# Altium schematic symbol library NSC Audio.SchLib: 691 symbols (part 15 of 18)
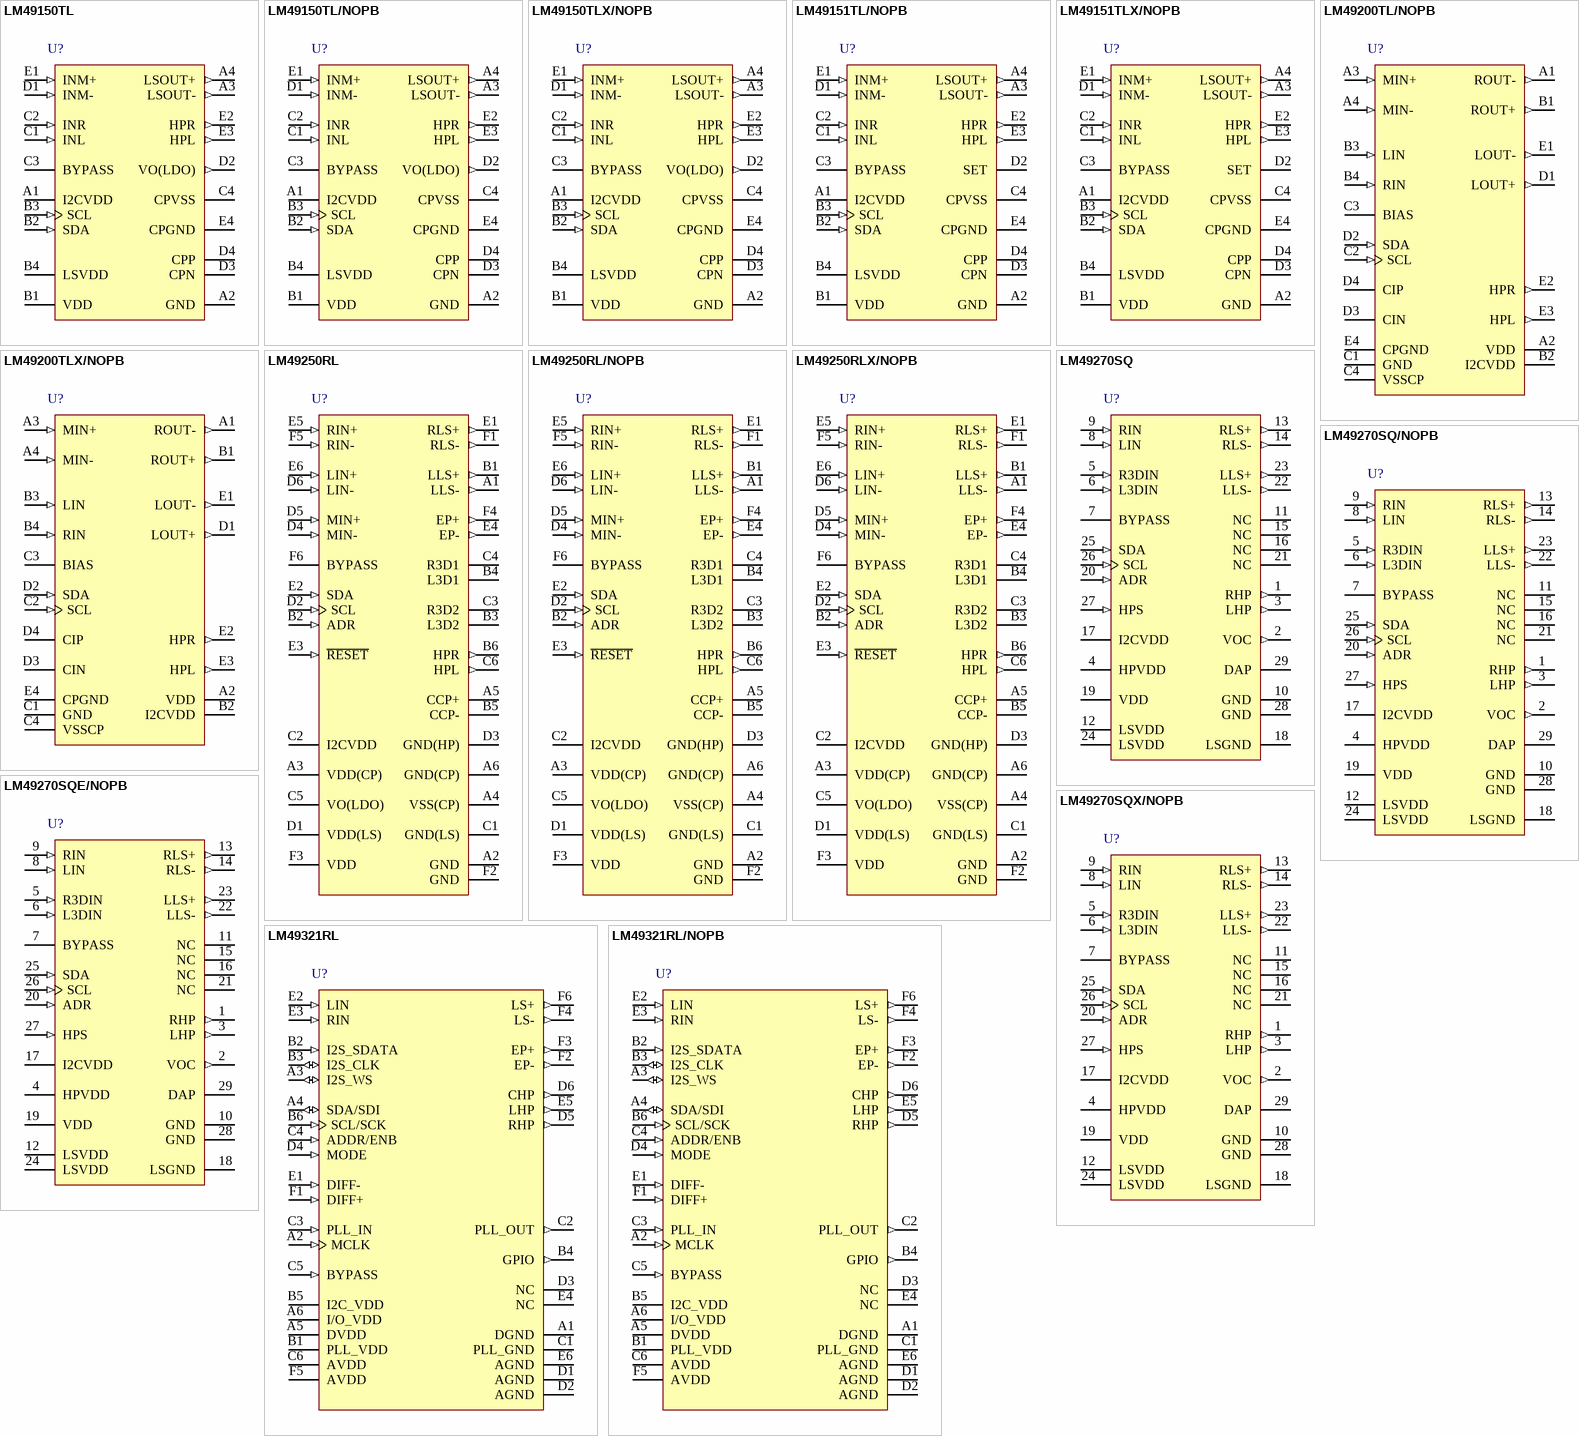
[diagram p41: symbols LM49150TL to LM49321RL/NOPB]

## LM49150TL/NOPB
designator U?
Mono Class D Audio Subsystem with Earpiece Driver and Stereo Ground Referenced Headphone Amplifiers, 20-pin Micro SMD, Pb-Free; PartNumber: LM49150TL/NOPB; Manufacturer: National Semiconductor; PackageTopMarking: XYTT*I GK7; PowerWise: N; CompType: Audio IC; Published: 1-Mar-2010; DatasheetVersion: Mar-2009; PackageVersion: revC, Jan-2004; PackageReference: TLA20KGA; Publisher: Altium Limited; PackageDescription: Thin Micro SMD, 20 Bump (Large), 0.5mm Pitch; Supplier 1: Digi-Key; Supplier Part Number 1: LM49150TLTR-ND; Supplier 2: Digi-Key; Supplier Part Number 2: LM49150TLCT-ND; Supplier 3: Digi-Key; Supplier Part Number 3: LM49150TLDKR-ND; RoHS: Y; PinCount: 20; Code_JEDEC: MO-211-DG; ComponentLink1Description: LM49150 Datasheet; ComponentLink1URL: http://www.national.com/ds/LM/LM49150.pdf; ComponentLink2Description: LM49150 Web Page; ComponentLink2URL: http://www.national.com/pf/LM/LM49150.html; ComponentLink3Description: TLA20KGA Package Page; ComponentLink3URL: http://www.national.com/packaging/folders/tla20kga.html
footprint TLA20KGA (Micro SMD, 20-Leads, Body 2.64x2.23mm, Pitch 0.5mm, NSC Recommended)
pins: A1 I2CVDD (power), A2 GND (power), A3 LSOUT- (out), A4 LSOUT+ (out), B1 VDD (power), B2 SDA (in), B3 SCL (in), B4 LSVDD (power), C1 INL (in), C2 INR (in), C3 BYPASS, C4 CPVSS (power), D1 INM- (in), D2 VO(LDO) (out), D3 CPN, D4 CPP, E1 INM+ (in), E2 HPR (out), E3 HPL (out), E4 CPGND (power)

## LM49150TLX/NOPB
designator U?
Mono Class D Audio Subsystem with Earpiece Driver and Stereo Ground Referenced Headphone Amplifiers, 20-pin Micro SMD, Pb-Free; PartNumber: LM49150TLX/NOPB; Manufacturer: National Semiconductor; PackageTopMarking: XYTT*I GK7; PowerWise: N; CompType: Audio IC; Published: 1-Mar-2010; DatasheetVersion: Mar-2009; PackageVersion: revC, Jan-2004; PackageReference: TLA20KGA; Publisher: Altium Limited; PackageDescription: Thin Micro SMD, 20 Bump (Large), 0.5mm Pitch; Supplier 1: Digi-Key; Supplier Part Number 1: LM49150TLX-ND; RoHS: Y; PinCount: 20; Code_JEDEC: MO-211-DG; ComponentLink1Description: LM49150 Datasheet; ComponentLink1URL: http://www.national.com/ds/LM/LM49150.pdf; ComponentLink2Description: LM49150 Web Page; ComponentLink2URL: http://www.national.com/pf/LM/LM49150.html; ComponentLink3Description: TLA20KGA Package Page; ComponentLink3URL: http://www.national.com/packaging/folders/tla20kga.html
footprint TLA20KGA (Micro SMD, 20-Leads, Body 2.64x2.23mm, Pitch 0.5mm, NSC Recommended)
pins: A1 I2CVDD (power), A2 GND (power), A3 LSOUT- (out), A4 LSOUT+ (out), B1 VDD (power), B2 SDA (in), B3 SCL (in), B4 LSVDD (power), C1 INL (in), C2 INR (in), C3 BYPASS, C4 CPVSS (power), D1 INM- (in), D2 VO(LDO) (out), D3 CPN, D4 CPP, E1 INM+ (in), E2 HPR (out), E3 HPL (out), E4 CPGND (power)

## LM49151TL/NOPB
designator U?
Mono Class D Audio Subsystem with Earpiece Driver, Ground Referenced Headphone Amplifiers, Speaker Protection and No Clip with Clip Control, 20-pin Micro SMD, Pb-Free; PartNumber: LM49151TL/NOPB; Manufacturer: National Semiconductor; PackageTopMarking: XYTT*I GL7; PowerWise: Y; CompType: Audio IC; Published: 1-Mar-2010; DatasheetVersion: Apr-2009; PackageVersion: revC, Jan-2004; PackageReference: TLA20GDA; Publisher: Altium Limited; PackageDescription: Thin Micro SMD, 20 Bump (Large), 0.5mm Pitch; Supplier 1: Digi-Key; Supplier Part Number 1: LM49151TLTR-ND; Supplier 2: Digi-Key; Supplier Part Number 2: LM49151TLCT-ND; Supplier 3: Digi-Key; Supplier Part Number 3: LM49151TLDKR-ND; RoHS: Y; PinCount: 20; Code_JEDEC: MO-211-DG; ComponentLink1Description: LM49151 Datasheet; ComponentLink1URL: http://www.national.com/ds/LM/LM49151.pdf; ComponentLink2Description: LM49151 Web Page; ComponentLink2URL: http://www.national.com/pf/LM/LM49151.html; ComponentLink3Description: TLA20GDA Package Page; ComponentLink3URL: http://www.national.com/packaging/folders/tla20gda.html
footprint TLA20GDA (Micro SMD, 20-Leads, Body 2.57x2.15mm, Pitch 0.5mm, NSC Recommended)
pins: A1 I2CVDD (power), A2 GND (power), A3 LSOUT- (out), A4 LSOUT+ (out), B1 VDD (power), B2 SDA (in), B3 SCL (in), B4 LSVDD (power), C1 INL (in), C2 INR (in), C3 BYPASS, C4 CPVSS (power), D1 INM- (in), D2 SET, D3 CPN, D4 CPP, E1 INM+ (in), E2 HPR (out), E3 HPL (out), E4 CPGND (power)

## LM49151TLX/NOPB
designator U?
Mono Class D Audio Subsystem with Earpiece Driver, Ground Referenced Headphone Amplifiers, Speaker Protection and No Clip with Clip Control, 20-pin Micro SMD, Pb-Free; PartNumber: LM49151TLX/NOPB; Manufacturer: National Semiconductor; PackageTopMarking: XYTT*I GL7; PowerWise: Y; CompType: Audio IC; Published: 1-Mar-2010; DatasheetVersion: Apr-2009; PackageVersion: revC, Jan-2004; PackageReference: TLA20GDA; Publisher: Altium Limited; PackageDescription: Thin Micro SMD, 20 Bump (Large), 0.5mm Pitch; Supplier 1: Digi-Key; Supplier Part Number 1: LM49151TLX-ND; RoHS: Y; PinCount: 20; Code_JEDEC: MO-211-DG; ComponentLink1Description: LM49151 Datasheet; ComponentLink1URL: http://www.national.com/ds/LM/LM49151.pdf; ComponentLink2Description: LM49151 Web Page; ComponentLink2URL: http://www.national.com/pf/LM/LM49151.html; ComponentLink3Description: TLA20GDA Package Page; ComponentLink3URL: http://www.national.com/packaging/folders/tla20gda.html
footprint TLA20GDA (Micro SMD, 20-Leads, Body 2.57x2.15mm, Pitch 0.5mm, NSC Recommended)
pins: A1 I2CVDD (power), A2 GND (power), A3 LSOUT- (out), A4 LSOUT+ (out), B1 VDD (power), B2 SDA (in), B3 SCL (in), B4 LSVDD (power), C1 INL (in), C2 INR (in), C3 BYPASS, C4 CPVSS (power), D1 INM- (in), D2 SET, D3 CPN, D4 CPP, E1 INM+ (in), E2 HPR (out), E3 HPL (out), E4 CPGND (power)

## LM49200TL/NOPB
designator U?
Stereo Class AB Audio Subsystem with a True Ground Headphone Amplifier, 20-pin Micro SMD, Pb-Free; PartNumber: LM49200TL/NOPB; Manufacturer: National Semiconductor; PackageTopMarking: XYTT*I GL3; PowerWise: N; CompType: Audio IC; Published: 1-Mar-2010; DatasheetVersion: May-2009; PackageVersion: revC, Jan-2004; PackageReference: TLA20BBA; Publisher: Altium Limited; PackageDescription: Thin Micro SMD, 20 Bump (Large), 0.5mm Pitch; Supplier 1: Digi-Key; Supplier Part Number 1: LM49200TLTR-ND; Supplier 2: Digi-Key; Supplier Part Number 2: LM49200TLCT-ND; Supplier 3: Digi-Key; Supplier Part Number 3: LM49200TLDKR-ND; RoHS: Y; PinCount: 20; Code_JEDEC: MO-211-DG; ComponentLink1Description: LM49200 Datasheet; ComponentLink1URL: http://www.national.com/ds/LM/LM49200.pdf; ComponentLink2Description: LM49200 Web Page; ComponentLink2URL: http://www.national.com/pf/LM/LM49200.html; ComponentLink3Description: TLA20BBA Package Page; ComponentLink3URL: http://www.national.com/packaging/folders/tla20bba.html
footprint TLA20BBA (Micro SMD, 20-Leads, Body 2.52x2.02mm, Pitch 0.5mm, NSC Recommended)
pins: A1 ROUT- (out), A2 VDD (power), A3 MIN+ (in), A4 MIN- (in), B1 ROUT+ (out), B2 I2CVDD (power), B3 LIN (in), B4 RIN (in), C1 GND (power), C2 SCL (in), C3 BIAS, C4 VSSCP (power), D1 LOUT+ (out), D2 SDA (in), D3 CIN, D4 CIP, E1 LOUT- (out), E2 HPR (out), E3 HPL (out), E4 CPGND (power)

## LM49200TLX/NOPB
designator U?
Stereo Class AB Audio Subsystem with a True Ground Headphone Amplifier, 20-pin Micro SMD, Pb-Free; PartNumber: LM49200TLX/NOPB; Manufacturer: National Semiconductor; PackageTopMarking: XYTT*I GL3; PowerWise: N; CompType: Audio IC; Published: 1-Mar-2010; DatasheetVersion: May-2009; PackageVersion: revC, Jan-2004; PackageReference: TLA20BBA; Publisher: Altium Limited; PackageDescription: Thin Micro SMD, 20 Bump (Large), 0.5mm Pitch; Supplier 1: Digi-Key; Supplier Part Number 1: LM49200TLX-ND; RoHS: Y; PinCount: 20; Code_JEDEC: MO-211-DG; ComponentLink1Description: LM49200 Datasheet; ComponentLink1URL: http://www.national.com/ds/LM/LM49200.pdf; ComponentLink2Description: LM49200 Web Page; ComponentLink2URL: http://www.national.com/pf/LM/LM49200.html; ComponentLink3Description: TLA20BBA Package Page; ComponentLink3URL: http://www.national.com/packaging/folders/tla20bba.html
footprint TLA20BBA (Micro SMD, 20-Leads, Body 2.52x2.02mm, Pitch 0.5mm, NSC Recommended)
pins: A1 ROUT- (out), A2 VDD (power), A3 MIN+ (in), A4 MIN- (in), B1 ROUT+ (out), B2 I2CVDD (power), B3 LIN (in), B4 RIN (in), C1 GND (power), C2 SCL (in), C3 BIAS, C4 VSSCP (power), D1 LOUT+ (out), D2 SDA (in), D3 CIN, D4 CIP, E1 LOUT- (out), E2 HPR (out), E3 HPL (out), E4 CPGND (power)

## LM49250RL
designator U?
Enhanced Emissions Suppression Stereo Class D Audio Sub-System with Ground Referenced Headphone Amplifier, 36-pin Micro SMDXT; PartNumber: LM49250RL; Manufacturer: National Semiconductor; PackageTopMarking: XYTT*I GJ1; PowerWise: Y; CompType: Audio IC; Published: 4-Dec-2008; DatasheetVersion: Dec-2008; PackageVersion: revA, 2008; PackageReference: RLA36CCA; Publisher: Altium Limited; PackageDescription: Micro SMDxt, 36 Bump (Large), 0.5mm Pitch; RoHS: Y; PinCount: 36; ComponentLink1Description: LM49250 Datasheet; ComponentLink1URL: http://www.national.com/ds/LM/LM49250.pdf; ComponentLink2Description: LM49250 Web Page; ComponentLink2URL: http://www.national.com/pf/LM/LM49250.html; ComponentLink3Description: RLA36CCA Package Page; ComponentLink3URL: http://www.national.com/packaging/folders/rla36cca.html
footprint RLA36CCA (Micro SMD, 36-Leads, Body 3.05x3.05mm, Pitch 0.5mm, NSC Recommended)
pins: A1 LLS- (out), A2 GND (power), A3 VDD(CP) (power), A4 VSS(CP) (power), A5 CCP+, A6 GND(CP) (power), B1 LLS+ (out), B2 ADR (in), B3 L3D2, B4 L3D1, B5 CCP-, B6 HPR (out), C1 GND(LS) (power), C2 I2CVDD (power), C3 R3D2, C4 R3D1, C5 VO(LDO) (power), C6 HPL (out), D1 VDD(LS) (power), D2 SCL (in), D3 GND(HP) (power), D4 MIN- (in), D5 MIN+ (in), D6 LIN- (in), E1 RLS+ (out), E2 SDA (in), E3 ~{RESET} (in), E4 EP- (out), E5 RIN+ (in), E6 LIN+ (in), F1 RLS- (out), F2 GND (power), F3 VDD (power), F4 EP+ (out), F5 RIN- (in), F6 BYPASS

## LM49250RL/NOPB
designator U?
Enhanced Emissions Suppression Stereo Class D Audio Sub-System with Ground Referenced Headphone Amplifier, 36-pin Micro SMDXT, Pb-Free; PartNumber: LM49250RL/NOPB; Manufacturer: National Semiconductor; PackageTopMarking: XYTT*I GJ1; PowerWise: Y; CompType: Audio IC; Published: 1-Mar-2010; DatasheetVersion: Dec-2008; PackageVersion: revA, 2008; PackageReference: RLA36CCA; Publisher: Altium Limited; PackageDescription: Micro SMDxt, 36 Bump (Large), 0.5mm Pitch; Supplier 1: Digi-Key; Supplier Part Number 1: LM49250RLTR-ND; Supplier 2: Digi-Key; Supplier Part Number 2: LM49250RLCT-ND; Supplier 3: Digi-Key; Supplier Part Number 3: LM49250RLDKR-ND; RoHS: Y; PinCount: 36; ComponentLink1Description: LM49250 Datasheet; ComponentLink1URL: http://www.national.com/ds/LM/LM49250.pdf; ComponentLink2Description: LM49250 Web Page; ComponentLink2URL: http://www.national.com/pf/LM/LM49250.html; ComponentLink3Description: RLA36CCA Package Page; ComponentLink3URL: http://www.national.com/packaging/folders/rla36cca.html
footprint RLA36CCA (Micro SMD, 36-Leads, Body 3.05x3.05mm, Pitch 0.5mm, NSC Recommended)
pins: A1 LLS- (out), A2 GND (power), A3 VDD(CP) (power), A4 VSS(CP) (power), A5 CCP+, A6 GND(CP) (power), B1 LLS+ (out), B2 ADR (in), B3 L3D2, B4 L3D1, B5 CCP-, B6 HPR (out), C1 GND(LS) (power), C2 I2CVDD (power), C3 R3D2, C4 R3D1, C5 VO(LDO) (power), C6 HPL (out), D1 VDD(LS) (power), D2 SCL (in), D3 GND(HP) (power), D4 MIN- (in), D5 MIN+ (in), D6 LIN- (in), E1 RLS+ (out), E2 SDA (in), E3 ~{RESET} (in), E4 EP- (out), E5 RIN+ (in), E6 LIN+ (in), F1 RLS- (out), F2 GND (power), F3 VDD (power), F4 EP+ (out), F5 RIN- (in), F6 BYPASS

## LM49250RLX/NOPB
designator U?
Enhanced Emissions Suppression Stereo Class D Audio Sub-System with Ground Referenced Headphone Amplifier, 36-pin Micro SMDXT, Pb-Free; PartNumber: LM49250RLX/NOPB; Manufacturer: National Semiconductor; PackageTopMarking: XYTT*I GJ1; PowerWise: Y; CompType: Audio IC; Published: 1-Mar-2010; DatasheetVersion: Dec-2008; PackageVersion: revA, 2008; PackageReference: RLA36CCA; Publisher: Altium Limited; PackageDescription: Micro SMDxt, 36 Bump (Large), 0.5mm Pitch; Supplier 1: Digi-Key; Supplier Part Number 1: LM49250RLX-ND; RoHS: Y; PinCount: 36; ComponentLink1Description: LM49250 Datasheet; ComponentLink1URL: http://www.national.com/ds/LM/LM49250.pdf; ComponentLink2Description: LM49250 Web Page; ComponentLink2URL: http://www.national.com/pf/LM/LM49250.html; ComponentLink3Description: RLA36CCA Package Page; ComponentLink3URL: http://www.national.com/packaging/folders/rla36cca.html
footprint RLA36CCA (Micro SMD, 36-Leads, Body 3.05x3.05mm, Pitch 0.5mm, NSC Recommended)
pins: A1 LLS- (out), A2 GND (power), A3 VDD(CP) (power), A4 VSS(CP) (power), A5 CCP+, A6 GND(CP) (power), B1 LLS+ (out), B2 ADR (in), B3 L3D2, B4 L3D1, B5 CCP-, B6 HPR (out), C1 GND(LS) (power), C2 I2CVDD (power), C3 R3D2, C4 R3D1, C5 VO(LDO) (power), C6 HPL (out), D1 VDD(LS) (power), D2 SCL (in), D3 GND(HP) (power), D4 MIN- (in), D5 MIN+ (in), D6 LIN- (in), E1 RLS+ (out), E2 SDA (in), E3 ~{RESET} (in), E4 EP- (out), E5 RIN+ (in), E6 LIN+ (in), F1 RLS- (out), F2 GND (power), F3 VDD (power), F4 EP+ (out), F5 RIN- (in), F6 BYPASS

## LM49270SQ
designator U?
Filterless 2.2W Class D Audio Subsystem with OCL Headphone Amplifier, 3D Enhancement, and Headphone Sense, 28-pin LLP; PartNumber: LM49270SQ; Manufacturer: National Semiconductor; PackageTopMarking: NS*UZXYTT*49270SQ; PowerWise: N; CompType: Audio IC; Published: 4-Dec-2008; DatasheetVersion: Dec-2006; PackageVersion: revB, Aug-2003; PackageReference: SQA28A; Publisher: Altium Limited; PackageDescription: LLP, Plastic, Quad, 5 x 5 x 0.8mm Body, 28 Lead, 0.5mm Pitch, No Pullback; Supplier 1: Farnell; Supplier Part Number 1: 1320975; RoHS: Y; PinCount: 28; Code_JEDEC: MO-220-WHHD-3; ComponentLink1Description: LM49270 Datasheet; ComponentLink1URL: http://www.national.com/ds/LM/LM49270.pdf; ComponentLink2Description: LM49270 Web Page; ComponentLink2URL: http://www.national.com/pf/LM/LM49270.html; ComponentLink3Description: SQA28A Package Page; ComponentLink3URL: http://www.national.com/packaging/folders/sqa28a.html
footprint SQA28A (QFN, 28-Leads, Body 5x5mm, Pitch 0.5mm, NSC Recommended)
pins: 1 RHP (out), 2 VOC (out), 3 LHP (out), 4 HPVDD (power), 5 R3DIN (in), 6 L3DIN (in), 7 BYPASS, 8 LIN (in), 9 RIN (in), 10 GND (power), 11 NC, 12 LSVDD (power), 13 RLS+ (out), 14 RLS- (out), 15 NC, 16 NC, 17 I2CVDD (power), 18 LSGND (power), 19 VDD (power), 20 ADR (in), 21 NC, 22 LLS- (out), 23 LLS+ (out), 24 LSVDD (power), 25 SDA (in), 26 SCL (in), 27 HPS (in), 28 GND (power), 29 DAP (power)

## LM49270SQ/NOPB
designator U?
Filterless 2.2W Class D Audio Subsystem with OCL Headphone Amplifier, 3D Enhancement, and Headphone Sense, 28-pin LLP, Pb-Free; PartNumber: LM49270SQ/NOPB; Manufacturer: National Semiconductor; PackageTopMarking: NS*UZXYTT*49270SQ; PowerWise: N; CompType: Audio IC; Published: 1-Mar-2010; DatasheetVersion: Dec-2006; PackageVersion: revB, Aug-2003; PackageReference: SQA28A; Publisher: Altium Limited; PackageDescription: LLP, Plastic, Quad, 5 x 5 x 0.8mm Body, 28 Lead, 0.5mm Pitch, No Pullback; Supplier 1: Digi-Key; Supplier Part Number 1: LM49270SQTR-ND; Supplier 2: Digi-Key; Supplier Part Number 2: LM49270SQCT-ND; Supplier 3: Digi-Key; Supplier Part Number 3: LM49270SQDKR-ND; RoHS: Y; PinCount: 28; Code_JEDEC: MO-220-WHHD-3; ComponentLink1Description: LM49270 Datasheet; ComponentLink1URL: http://www.national.com/ds/LM/LM49270.pdf; ComponentLink2Description: LM49270 Web Page; ComponentLink2URL: http://www.national.com/pf/LM/LM49270.html; ComponentLink3Description: SQA28A Package Page; ComponentLink3URL: http://www.national.com/packaging/folders/sqa28a.html
footprint SQA28A (QFN, 28-Leads, Body 5x5mm, Pitch 0.5mm, NSC Recommended)
pins: 1 RHP (out), 2 VOC (out), 3 LHP (out), 4 HPVDD (power), 5 R3DIN (in), 6 L3DIN (in), 7 BYPASS, 8 LIN (in), 9 RIN (in), 10 GND (power), 11 NC, 12 LSVDD (power), 13 RLS+ (out), 14 RLS- (out), 15 NC, 16 NC, 17 I2CVDD (power), 18 LSGND (power), 19 VDD (power), 20 ADR (in), 21 NC, 22 LLS- (out), 23 LLS+ (out), 24 LSVDD (power), 25 SDA (in), 26 SCL (in), 27 HPS (in), 28 GND (power), 29 DAP (power)

## LM49270SQE/NOPB
designator U?
Filterless 2.2W Class D Audio Subsystem with OCL Headphone Amplifier, 3D Enhancement, and Headphone Sense, 28-pin LLP, Pb-Free; PartNumber: LM49270SQE/NOPB; Manufacturer: National Semiconductor; PackageTopMarking: NS*UZXYTT*49270SQ; PowerWise: N; CompType: Audio IC; Published: 1-Mar-2010; DatasheetVersion: Dec-2006; PackageVersion: revB, Aug-2003; PackageReference: SQA28A; Publisher: Altium Limited; PackageDescription: LLP, Plastic, Quad, 5 x 5 x 0.8mm Body, 28 Lead, 0.5mm Pitch, No Pullback; Supplier 1: Digi-Key; Supplier Part Number 1: LM49270SQE-ND; RoHS: Y; PinCount: 28; Code_JEDEC: MO-220-WHHD-3; ComponentLink1Description: LM49270 Datasheet; ComponentLink1URL: http://www.national.com/ds/LM/LM49270.pdf; ComponentLink2Description: LM49270 Web Page; ComponentLink2URL: http://www.national.com/pf/LM/LM49270.html; ComponentLink3Description: SQA28A Package Page; ComponentLink3URL: http://www.national.com/packaging/folders/sqa28a.html
footprint SQA28A (QFN, 28-Leads, Body 5x5mm, Pitch 0.5mm, NSC Recommended)
pins: 1 RHP (out), 2 VOC (out), 3 LHP (out), 4 HPVDD (power), 5 R3DIN (in), 6 L3DIN (in), 7 BYPASS, 8 LIN (in), 9 RIN (in), 10 GND (power), 11 NC, 12 LSVDD (power), 13 RLS+ (out), 14 RLS- (out), 15 NC, 16 NC, 17 I2CVDD (power), 18 LSGND (power), 19 VDD (power), 20 ADR (in), 21 NC, 22 LLS- (out), 23 LLS+ (out), 24 LSVDD (power), 25 SDA (in), 26 SCL (in), 27 HPS (in), 28 GND (power), 29 DAP (power)

## LM49270SQX/NOPB
designator U?
Filterless 2.2W Class D Audio Subsystem with OCL Headphone Amplifier, 3D Enhancement, and Headphone Sense, 28-pin LLP, Pb-Free; PartNumber: LM49270SQX/NOPB; Manufacturer: National Semiconductor; PackageTopMarking: NS*UZXYTT*49270SQ; PowerWise: N; CompType: Audio IC; Published: 1-Mar-2010; DatasheetVersion: Dec-2006; PackageVersion: revB, Aug-2003; PackageReference: SQA28A; Publisher: Altium Limited; PackageDescription: LLP, Plastic, Quad, 5 x 5 x 0.8mm Body, 28 Lead, 0.5mm Pitch, No Pullback; Supplier 1: Digi-Key; Supplier Part Number 1: LM49270SQX-ND; RoHS: Y; PinCount: 28; Code_JEDEC: MO-220-WHHD-3; ComponentLink1Description: LM49270 Datasheet; ComponentLink1URL: http://www.national.com/ds/LM/LM49270.pdf; ComponentLink2Description: LM49270 Web Page; ComponentLink2URL: http://www.national.com/pf/LM/LM49270.html; ComponentLink3Description: SQA28A Package Page; ComponentLink3URL: http://www.national.com/packaging/folders/sqa28a.html
footprint SQA28A (QFN, 28-Leads, Body 5x5mm, Pitch 0.5mm, NSC Recommended)
pins: 1 RHP (out), 2 VOC (out), 3 LHP (out), 4 HPVDD (power), 5 R3DIN (in), 6 L3DIN (in), 7 BYPASS, 8 LIN (in), 9 RIN (in), 10 GND (power), 11 NC, 12 LSVDD (power), 13 RLS+ (out), 14 RLS- (out), 15 NC, 16 NC, 17 I2CVDD (power), 18 LSGND (power), 19 VDD (power), 20 ADR (in), 21 NC, 22 LLS- (out), 23 LLS+ (out), 24 LSVDD (power), 25 SDA (in), 26 SCL (in), 27 HPS (in), 28 GND (power), 29 DAP (power)

## LM49321RL
designator U?
Audio Sub-System with Stereo DAC, Mono Class AB Loudspeaker Amplifier, OCL/SE Stereo Headphone Output and RF Suppression, 36-pin Micro SMDXT; PartNumber: LM49321RL; Manufacturer: National Semiconductor; PackageTopMarking: XYTT*I GK9; PowerWise: N; CompType: Audio IC; Published: 4-Dec-2008; DatasheetVersion: Aug-2009; PackageVersion: revA, 2007; PackageReference: RLA36LVA; Publisher: Altium Limited; PackageDescription: Micro SMDxt, 36 Bump (Large), 0.5mm Pitch; RoHS: Y; PinCount: 36; ComponentLink1Description: LM49321 Datasheet; ComponentLink1URL: http://www.national.com/ds/LM/LM49321.pdf; ComponentLink2Description: LM49321 Web Page; ComponentLink2URL: http://www.national.com/pf/LM/LM49321.html
footprint RLA36LVA (Micro SMD, 36-Leads, Body 3.51x3.26mm, Pitch 0.5mm, NSC Recommended)
pins: A1 DGND (power), A2 MCLK (in), A3 I2S_WS (io), A4 SDA/SDI (io), A5 DVDD (power), A6 I/O_VDD (power), B1 PLL_VDD (power), B2 I2S_SDATA (in), B3 I2S_CLK (io), B4 GPIO (out), B5 I2C_VDD (power), B6 SCL/SCK (in), C1 PLL_GND (power), C2 PLL_OUT (out), C3 PLL_IN (in), C4 ADDR/ENB (in), C5 BYPASS (in), C6 AVDD (power), D1 AGND (power), D2 AGND (power), D3 NC, D4 MODE (in), D5 RHP (out), D6 CHP (out), E1 DIFF- (in), E2 LIN (in), E3 RIN (in), E4 NC, E5 LHP (out), E6 AGND (power), F1 DIFF+ (in), F2 EP- (out), F3 EP+ (out), F4 LS- (out), F5 AVDD (power), F6 LS+ (out)

## LM49321RL/NOPB
designator U?
Audio Sub-System with Stereo DAC, Mono Class AB Loudspeaker Amplifier, OCL/SE Stereo Headphone Output and RF Suppression, 36-pin Micro SMDXT, Pb-Free; PartNumber: LM49321RL/NOPB; Manufacturer: National Semiconductor; PackageTopMarking: XYTT*I GK9; PowerWise: N; CompType: Audio IC; Published: 1-Mar-2010; DatasheetVersion: Aug-2009; PackageVersion: revA, 2007; PackageReference: RLA36LVA; Publisher: Altium Limited; PackageDescription: Micro SMDxt, 36 Bump (Large), 0.5mm Pitch; Supplier 1: Digi-Key; Supplier Part Number 1: LM49321RLTR-ND; Supplier 2: Digi-Key; Supplier Part Number 2: LM49321RLCT-ND; Supplier 3: Digi-Key; Supplier Part Number 3: LM49321RLDKR-ND; RoHS: Y; PinCount: 36; ComponentLink1Description: LM49321 Datasheet; ComponentLink1URL: http://www.national.com/ds/LM/LM49321.pdf; ComponentLink2Description: LM49321 Web Page; ComponentLink2URL: http://www.national.com/pf/LM/LM49321.html; ComponentLink3Description: RLA36LVA Package Page; ComponentLink3URL: http://www.national.com/packaging/folders/rla36lva.html
footprint RLA36LVA (Micro SMD, 36-Leads, Body 3.51x3.26mm, Pitch 0.5mm, NSC Recommended)
pins: A1 DGND (power), A2 MCLK (in), A3 I2S_WS (io), A4 SDA/SDI (io), A5 DVDD (power), A6 I/O_VDD (power), B1 PLL_VDD (power), B2 I2S_SDATA (in), B3 I2S_CLK (io), B4 GPIO (out), B5 I2C_VDD (power), B6 SCL/SCK (in), C1 PLL_GND (power), C2 PLL_OUT (out), C3 PLL_IN (in), C4 ADDR/ENB (in), C5 BYPASS (in), C6 AVDD (power), D1 AGND (power), D2 AGND (power), D3 NC, D4 MODE (in), D5 RHP (out), D6 CHP (out), E1 DIFF- (in), E2 LIN (in), E3 RIN (in), E4 NC, E5 LHP (out), E6 AGND (power), F1 DIFF+ (in), F2 EP- (out), F3 EP+ (out), F4 LS- (out), F5 AVDD (power), F6 LS+ (out)

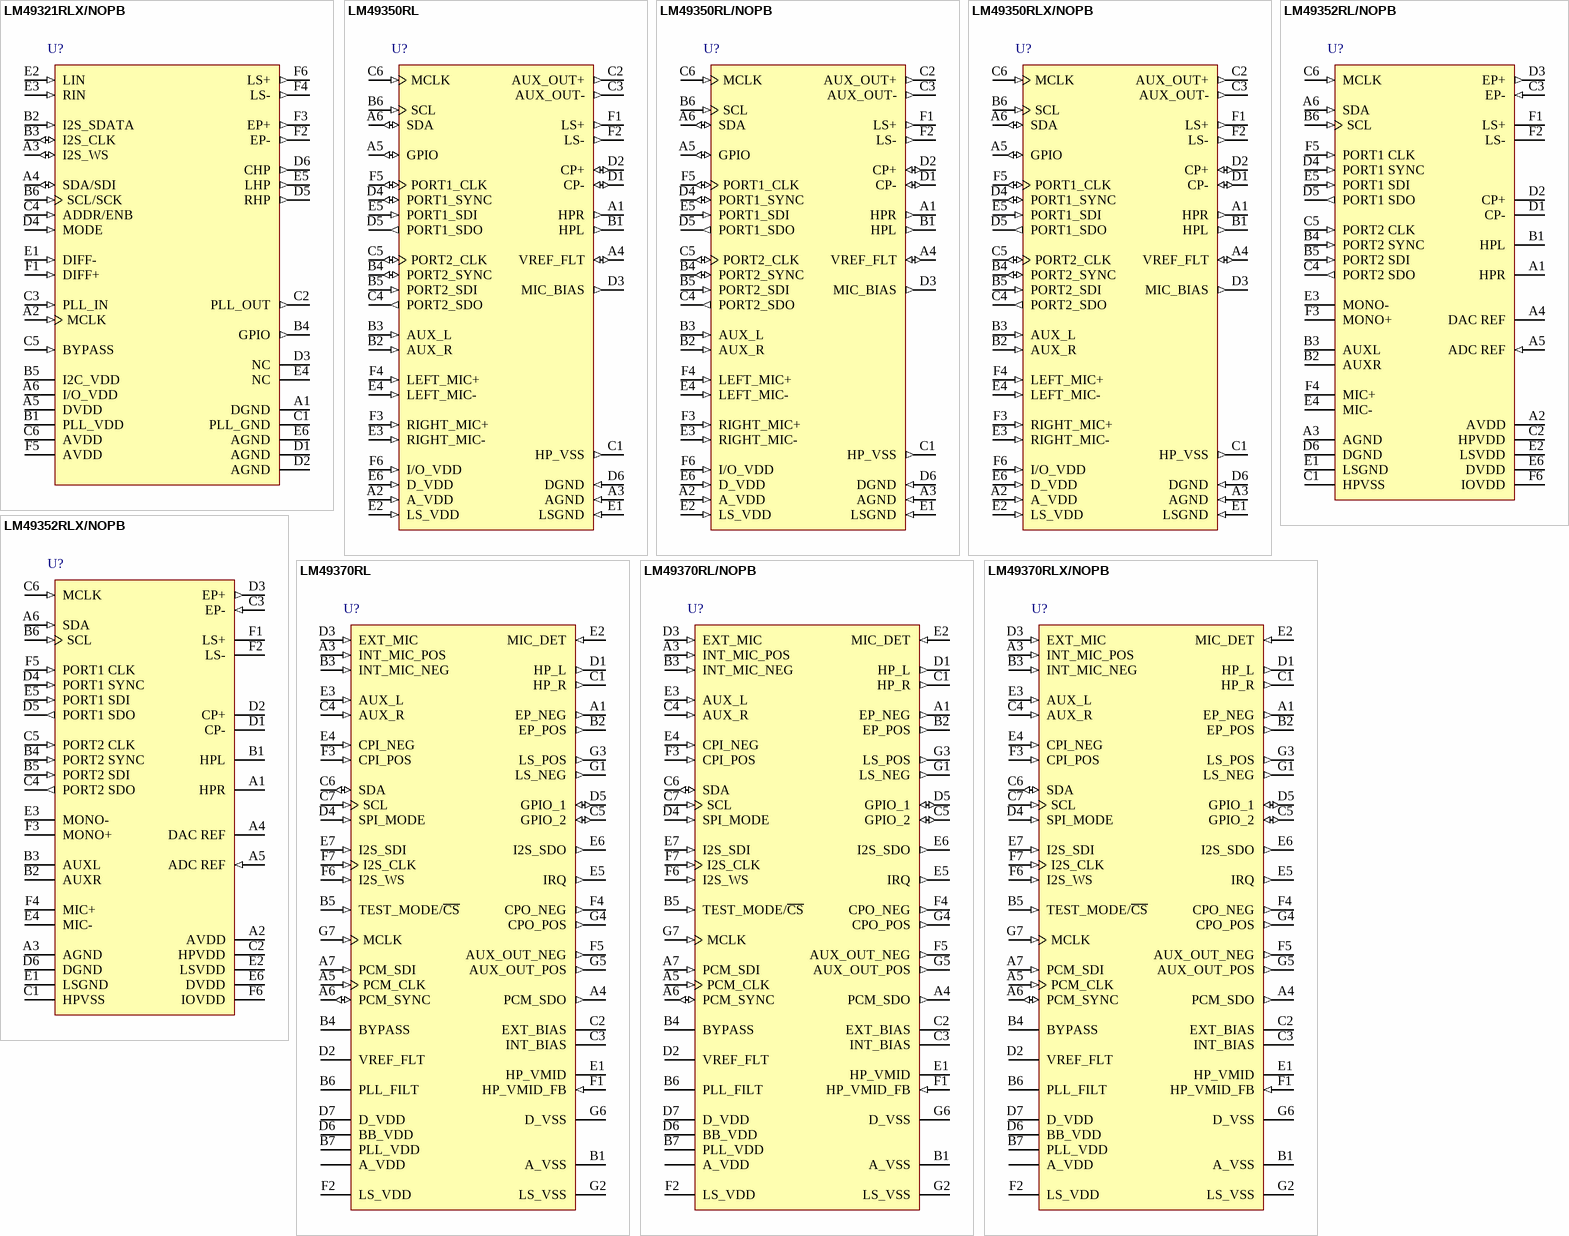
[diagram p22: symbols LM49321RLX/NOPB to LM49370RLX/NOPB]

## LM49321RLX/NOPB
designator U?
Audio Sub-System with Stereo DAC, Mono Class AB Loudspeaker Amplifier, OCL/SE Stereo Headphone Output and RF Suppression, 36-pin Micro SMDXT, Pb-Free; PartNumber: LM49321RLX/NOPB; Manufacturer: National Semiconductor; PackageTopMarking: XYTT*I GK9; PowerWise: N; CompType: Audio IC; Published: 1-Mar-2010; DatasheetVersion: Aug-2009; PackageVersion: revA, 2007; PackageReference: RLA36LVA; Publisher: Altium Limited; PackageDescription: Micro SMDxt, 36 Bump (Large), 0.5mm Pitch; Supplier 1: Digi-Key; Supplier Part Number 1: LM49321RLX-ND; RoHS: Y; PinCount: 36; ComponentLink1Description: LM49321 Datasheet; ComponentLink1URL: http://www.national.com/ds/LM/LM49321.pdf; ComponentLink2Description: LM49321 Web Page; ComponentLink2URL: http://www.national.com/pf/LM/LM49321.html; ComponentLink3Description: RLA36LVA Package Page; ComponentLink3URL: http://www.national.com/packaging/folders/rla36lva.html
footprint RLA36LVA (Micro SMD, 36-Leads, Body 3.51x3.26mm, Pitch 0.5mm, NSC Recommended)
pins: A1 DGND (power), A2 MCLK (in), A3 I2S_WS (io), A4 SDA/SDI (io), A5 DVDD (power), A6 I/O_VDD (power), B1 PLL_VDD (power), B2 I2S_SDATA (in), B3 I2S_CLK (io), B4 GPIO (out), B5 I2C_VDD (power), B6 SCL/SCK (in), C1 PLL_GND (power), C2 PLL_OUT (out), C3 PLL_IN (in), C4 ADDR/ENB (in), C5 BYPASS (in), C6 AVDD (power), D1 AGND (power), D2 AGND (power), D3 NC, D4 MODE (in), D5 RHP (out), D6 CHP (out), E1 DIFF- (in), E2 LIN (in), E3 RIN (in), E4 NC, E5 LHP (out), E6 AGND (power), F1 DIFF+ (in), F2 EP- (out), F3 EP+ (out), F4 LS- (out), F5 AVDD (power), F6 LS+ (out)

## LM49350RL
designator U?
High Performance Audio Codec Sub-System with a Ground-Referenced Stereo Headphone Amplifier & Ultra Low EMI Class D Loudspeaker Amplifier with Dual I2S/PCM Digital Audio Interfaces, 36-pin Micro SMDXT; PartNumber: LM49350RL; Manufacturer: National Semiconductor; PackageTopMarking: XYTT*I GJ8; PowerWise: N; CompType: Audio IC; Published: 4-Dec-2008; DatasheetVersion: May-2009; PackageVersion: revA, 2008; PackageReference: RLA36TTA; Publisher: Altium Limited; PackageDescription: Micro SMDxt, 36 Bump (Large), 0.5mm Pitch; Supplier 1: Farnell; Supplier Part Number 1: 1667423; RoHS: Y; PinCount: 36; ComponentLink1Description: LM49350 Datasheet; ComponentLink1URL: http://www.national.com/ds/LM/LM49350.pdf; ComponentLink2Description: LM49350 Web Page; ComponentLink2URL: http://www.national.com/pf/LM/LM49350.html
footprint RLA36TTA (Micro SMD, 36-Leads, Body 3.46x3.46mm, Pitch 0.5mm, NSC Recommended)
pins: A1 HPR (out), A2 A_VDD (in), A3 AGND (in), A4 VREF_FLT (io), A5 GPIO (io), A6 SDA (io), B1 HPL (out), B2 AUX_R (in), B3 AUX_L (in), B4 PORT2_SYNC (io), B5 PORT2_SDI (in), B6 SCL (in), C1 HP_VSS (out), C2 AUX_OUT+ (out), C3 AUX_OUT- (out), C4 PORT2_SDO (out), C5 PORT2_CLK (io), C6 MCLK (in), D1 CP- (io), D2 CP+ (io), D3 MIC_BIAS (out), D4 PORT1_SYNC (io), D5 PORT1_SDO (out), D6 DGND (in), E1 LSGND (in), E2 LS_VDD (in), E3 RIGHT_MIC- (in), E4 LEFT_MIC- (in), E5 PORT1_SDI (in), E6 D_VDD (in), F1 LS+ (out), F2 LS- (out), F3 RIGHT_MIC+ (in), F4 LEFT_MIC+ (in), F5 PORT1_CLK (io), F6 I/O_VDD (in)

## LM49350RL/NOPB
designator U?
High Performance Audio Codec Sub-System with a Ground-Referenced Stereo Headphone Amplifier & Ultra Low EMI Class D Loudspeaker Amplifier with Dual I2S/PCM Digital Audio Interfaces, 36-pin Micro SMDXT, Pb-Free; PartNumber: LM49350RL/NOPB; Manufacturer: National Semiconductor; PackageTopMarking: XYTT*I GJ8; PowerWise: N; CompType: Audio IC; Published: 1-Mar-2010; DatasheetVersion: May-2009; PackageVersion: revA, 2008; PackageReference: RLA36TTA; Publisher: Altium Limited; PackageDescription: Micro SMDxt, 36 Bump (Large), 0.5mm Pitch; Supplier 1: Digi-Key; Supplier Part Number 1: LM49350RLTR-ND; Supplier 2: Digi-Key; Supplier Part Number 2: LM49350RLCT-ND; Supplier 3: Digi-Key; Supplier Part Number 3: LM49350RLDKR-ND; Supplier 4: Farnell; Supplier Part Number 4: 1685787; RoHS: Y; PinCount: 36; ComponentLink1Description: LM49350 Datasheet; ComponentLink1URL: http://www.national.com/ds/LM/LM49350.pdf; ComponentLink2Description: LM49350 Web Page; ComponentLink2URL: http://www.national.com/pf/LM/LM49350.html; ComponentLink3Description: RLA36TTA Package Page; ComponentLink3URL: http://www.national.com/packaging/folders/rla36tta.html
footprint RLA36TTA (Micro SMD, 36-Leads, Body 3.46x3.46mm, Pitch 0.5mm, NSC Recommended)
pins: A1 HPR (out), A2 A_VDD (in), A3 AGND (in), A4 VREF_FLT (io), A5 GPIO (io), A6 SDA (io), B1 HPL (out), B2 AUX_R (in), B3 AUX_L (in), B4 PORT2_SYNC (io), B5 PORT2_SDI (in), B6 SCL (in), C1 HP_VSS (out), C2 AUX_OUT+ (out), C3 AUX_OUT- (out), C4 PORT2_SDO (out), C5 PORT2_CLK (io), C6 MCLK (in), D1 CP- (io), D2 CP+ (io), D3 MIC_BIAS (out), D4 PORT1_SYNC (io), D5 PORT1_SDO (out), D6 DGND (in), E1 LSGND (in), E2 LS_VDD (in), E3 RIGHT_MIC- (in), E4 LEFT_MIC- (in), E5 PORT1_SDI (in), E6 D_VDD (in), F1 LS+ (out), F2 LS- (out), F3 RIGHT_MIC+ (in), F4 LEFT_MIC+ (in), F5 PORT1_CLK (io), F6 I/O_VDD (in)

## LM49350RLX/NOPB
designator U?
High Performance Audio Codec Sub-System with a Ground-Referenced Stereo Headphone Amplifier & Ultra Low EMI Class D Loudspeaker Amplifier with Dual I2S/PCM Digital Audio Interfaces, 36-pin Micro SMDXT, Pb-Free; PartNumber: LM49350RLX/NOPB; Manufacturer: National Semiconductor; PackageTopMarking: XYTT*I GJ8; PowerWise: N; CompType: Audio IC; Published: 1-Mar-2010; DatasheetVersion: May-2009; PackageVersion: revA, 2008; PackageReference: RLA36TTA; Publisher: Altium Limited; PackageDescription: Micro SMDxt, 36 Bump (Large), 0.5mm Pitch; Supplier 1: Digi-Key; Supplier Part Number 1: LM49350RLX-ND; RoHS: Y; PinCount: 36; ComponentLink1Description: LM49350 Datasheet; ComponentLink1URL: http://www.national.com/ds/LM/LM49350.pdf; ComponentLink2Description: LM49350 Web Page; ComponentLink2URL: http://www.national.com/pf/LM/LM49350.html; ComponentLink3Description: RLA36TTA Package Page; ComponentLink3URL: http://www.national.com/packaging/folders/rla36tta.html
footprint RLA36TTA (Micro SMD, 36-Leads, Body 3.46x3.46mm, Pitch 0.5mm, NSC Recommended)
pins: A1 HPR (out), A2 A_VDD (in), A3 AGND (in), A4 VREF_FLT (io), A5 GPIO (io), A6 SDA (io), B1 HPL (out), B2 AUX_R (in), B3 AUX_L (in), B4 PORT2_SYNC (io), B5 PORT2_SDI (in), B6 SCL (in), C1 HP_VSS (out), C2 AUX_OUT+ (out), C3 AUX_OUT- (out), C4 PORT2_SDO (out), C5 PORT2_CLK (io), C6 MCLK (in), D1 CP- (io), D2 CP+ (io), D3 MIC_BIAS (out), D4 PORT1_SYNC (io), D5 PORT1_SDO (out), D6 DGND (in), E1 LSGND (in), E2 LS_VDD (in), E3 RIGHT_MIC- (in), E4 LEFT_MIC- (in), E5 PORT1_SDI (in), E6 D_VDD (in), F1 LS+ (out), F2 LS- (out), F3 RIGHT_MIC+ (in), F4 LEFT_MIC+ (in), F5 PORT1_CLK (io), F6 I/O_VDD (in)

## LM49352RL/NOPB
designator U?
Mono Class D Audio Codec Subsytem with Ground Referenced Headphone Amplifiers, Earpiece Driver, and Audio DSP, 36 pin MICRO SMDXT; PartNumber: LM49352RL/NOPB; Manufacturer: National Semiconductor; PackageTopMarking: XYTT*I GL5; PowerWise: Y; CompType: Audio IC; Published: 16-Nov-2010; DatasheetVersion: Jun-2010; PackageVersion: revA, Jun-2010; PackageReference: RLA36MMA; Publisher: Altium Limited; PackageDescription: Micro SMDxt, 36 Bump (Large), 0.5mm Pitch; Supplier 1: Digi-Key; Supplier Part Number 1: LM49352RLTR-ND; Supplier 2: Digi-Key; Supplier Part Number 2: LM49352RLCT-ND; Supplier 3: Digi-Key; Supplier Part Number 3: LM49352RLDKR-ND; RoHS: Y; PinCount: 36; ComponentLink1Description: LM49352 Datasheet; ComponentLink1URL: http://www.national.com/ds/LM/LM49352.pdf; ComponentLink2Description: LM49352 Web Page; ComponentLink2URL: http://www.national.com/pf/LM/LM49352.html
footprint RLA36MMA (Micro SMD, 36-Leads, Body 3x3mm, Pitch 0.5mm, NSC Recommended)
pins: A1 HPR, A2 AVDD (power), A3 AGND (power), A4 DAC REF (power), A5 ADC REF (in), A6 SDA (in), B1 HPL, B2 AUXR, B3 AUXL, B4 PORT2 SYNC (in), B5 PORT2 SDI (in), B6 SCL (in), C1 HPVSS (power), C2 HPVDD (power), C3 EP- (in), C4 PORT2 SDO (out), C5 PORT2 CLK (in), C6 MCLK (in), D1 CP-, D2 CP+, D3 EP+ (out), D4 PORT1 SYNC (in), D5 PORT1 SDO (out), D6 DGND (power), E1 LSGND (power), E2 LSVDD (power), E3 MONO-, E4 MIC-, E5 PORT1 SDI (in), E6 DVDD (power), F1 LS+ (power), F2 LS- (power), F3 MONO+, F4 MIC+, F5 PORT1 CLK (in), F6 IOVDD (power)

## LM49352RLX/NOPB
designator U?
Mono Class D Audio Codec Subsytem with Ground Referenced Headphone Amplifiers, Earpiece Driver, and Audio DSP, 36 pin MICRO SMDXT; PartNumber: LM49352RLX/NOPB; Manufacturer: National Semiconductor; PackageTopMarking: XYTT*I GL5; PowerWise: Y; CompType: Audio IC; Published: 16-Nov-2010; DatasheetVersion: Jun-2010; PackageVersion: revA, Jun-2010; PackageReference: RLA36MMA; Publisher: Altium Limited; PackageDescription: Micro SMDxt, 36 Bump (Large), 0.5mm Pitch; Supplier 1: Digi-Key; Supplier Part Number 1: LM49352RLX-ND; RoHS: Y; PinCount: 36; ComponentLink1Description: LM49352 Datasheet; ComponentLink1URL: http://www.national.com/ds/LM/LM49352.pdf; ComponentLink2Description: LM49352 Web Page; ComponentLink2URL: http://www.national.com/pf/LM/LM49352.html
footprint RLA36MMA (Micro SMD, 36-Leads, Body 3x3mm, Pitch 0.5mm, NSC Recommended)
pins: A1 HPR, A2 AVDD (power), A3 AGND (power), A4 DAC REF (power), A5 ADC REF (in), A6 SDA (in), B1 HPL, B2 AUXR, B3 AUXL, B4 PORT2 SYNC (in), B5 PORT2 SDI (in), B6 SCL (in), C1 HPVSS (power), C2 HPVDD (power), C3 EP- (in), C4 PORT2 SDO (out), C5 PORT2 CLK (in), C6 MCLK (in), D1 CP-, D2 CP+, D3 EP+ (out), D4 PORT1 SYNC (in), D5 PORT1 SDO (out), D6 DGND (power), E1 LSGND (power), E2 LSVDD (power), E3 MONO-, E4 MIC-, E5 PORT1 SDI (in), E6 DVDD (power), F1 LS+ (power), F2 LS- (power), F3 MONO+, F4 MIC+, F5 PORT1 CLK (in), F6 IOVDD (power)

## LM49370RL
designator U?
Boomer Audio Power Amplifier Series Audio Sub-System with an Ultra Low EMI, Spread Spectrum, Class D Loudspeaker Amplifier, a Dual-Mode Stereo Headphone Amplifier, and a Dedicated Interface for Bluetooth Transceivers, 49-pin Micro SMDXT; PartNumber: LM49370RL; Manufacturer: National Semiconductor; PackageTopMarking: XYTT*I GI3; PowerWise: Y; CompType: Audio IC; Published: 4-Dec-2008; DatasheetVersion: Feb-2008; PackageVersion: revB, Dec-2005; PackageReference: RLA49UUA; Publisher: Altium Limited; PackageDescription: Micro SMDxt, 49 Bump (Large), 0.5mm Pitch; RoHS: Y; PinCount: 49; ComponentLink1Description: LM49370 Datasheet; ComponentLink1URL: http://www.national.com/ds/LM/LM49370.pdf; ComponentLink2Description: LM49370 Web Page; ComponentLink2URL: http://www.national.com/pf/LM/LM49370.html; ComponentLink3Description: RLA49UUA Package Page; ComponentLink3URL: http://www.national.com/packaging/folders/rla49uua.html
footprint RLA49UUA (Micro SMD, 49-Leads, Body 3.93x3.93mm, Pitch 0.5mm, NSC Recommended)
pins: A1 EP_NEG (out), A2 A_VDD (power), A3 INT_MIC_POS (in), A4 PCM_SDO (out), A5 PCM_CLK (in), A6 PCM_SYNC (io), A7 PCM_SDI (in), B1 A_VSS (power), B2 EP_POS (out), B3 INT_MIC_NEG (in), B4 BYPASS, B5 TEST_MODE/~{CS} (in), B6 PLL_FILT, B7 PLL_VDD (power), C1 HP_R (out), C2 EXT_BIAS (power), C3 INT_BIAS (power), C4 AUX_R (in), C5 GPIO_2 (io), C6 SDA (io), C7 SCL (in), D1 HP_L (out), D2 VREF_FLT, D3 EXT_MIC (in), D4 SPI_MODE (in), D5 GPIO_1 (io), D6 BB_VDD (power), D7 D_VDD (power), E1 HP_VMID (power), E2 MIC_DET (in), E3 AUX_L (in), E4 CPI_NEG (in), E5 IRQ (out), E6 I2S_SDO (out), E7 I2S_SDI (in), F1 HP_VMID_FB (in), F2 LS_VDD (power), F3 CPI_POS (in), F4 CPO_NEG (out), F5 AUX_OUT_NEG (out), F6 I2S_WS (in), F7 I2S_CLK (in), G1 LS_NEG (out), G2 LS_VSS (power), G3 LS_POS (out), G4 CPO_POS (out), G5 AUX_OUT_POS (out), G6 D_VSS (power), G7 MCLK (in)

## LM49370RL/NOPB
designator U?
Boomer Audio Power Amplifier Series Audio Sub-System with an Ultra Low EMI, Spread Spectrum, Class D Loudspeaker Amplifier, a Dual-Mode Stereo Headphone Amplifier, and a Dedicated Interface for Bluetooth Transceivers, 49-pin Micro SMDXT, Pb-Free; PartNumber: LM49370RL/NOPB; Manufacturer: National Semiconductor; PackageTopMarking: XYTT*I GI3; PowerWise: Y; CompType: Audio IC; Published: 1-Mar-2010; DatasheetVersion: Feb-2008; PackageVersion: revB, Dec-2005; PackageReference: RLA49UUA; Publisher: Altium Limited; PackageDescription: Micro SMDxt, 49 Bump (Large), 0.5mm Pitch; Supplier 1: Digi-Key; Supplier Part Number 1: LM49370RLTR-ND; Supplier 2: Digi-Key; Supplier Part Number 2: LM49370RLCT-ND; Supplier 3: Digi-Key; Supplier Part Number 3: LM49370RLDKR-ND; RoHS: Y; PinCount: 49; ComponentLink1Description: LM49370 Datasheet; ComponentLink1URL: http://www.national.com/ds/LM/LM49370.pdf; ComponentLink2Description: LM49370 Web Page; ComponentLink2URL: http://www.national.com/pf/LM/LM49370.html; ComponentLink3Description: RLA49UUA Package Page; ComponentLink3URL: http://www.national.com/packaging/folders/rla49uua.html
footprint RLA49UUA (Micro SMD, 49-Leads, Body 3.93x3.93mm, Pitch 0.5mm, NSC Recommended)
pins: A1 EP_NEG (out), A2 A_VDD (power), A3 INT_MIC_POS (in), A4 PCM_SDO (out), A5 PCM_CLK (in), A6 PCM_SYNC (io), A7 PCM_SDI (in), B1 A_VSS (power), B2 EP_POS (out), B3 INT_MIC_NEG (in), B4 BYPASS, B5 TEST_MODE/~{CS} (in), B6 PLL_FILT, B7 PLL_VDD (power), C1 HP_R (out), C2 EXT_BIAS (power), C3 INT_BIAS (power), C4 AUX_R (in), C5 GPIO_2 (io), C6 SDA (io), C7 SCL (in), D1 HP_L (out), D2 VREF_FLT, D3 EXT_MIC (in), D4 SPI_MODE (in), D5 GPIO_1 (io), D6 BB_VDD (power), D7 D_VDD (power), E1 HP_VMID (power), E2 MIC_DET (in), E3 AUX_L (in), E4 CPI_NEG (in), E5 IRQ (out), E6 I2S_SDO (out), E7 I2S_SDI (in), F1 HP_VMID_FB (in), F2 LS_VDD (power), F3 CPI_POS (in), F4 CPO_NEG (out), F5 AUX_OUT_NEG (out), F6 I2S_WS (in), F7 I2S_CLK (in), G1 LS_NEG (out), G2 LS_VSS (power), G3 LS_POS (out), G4 CPO_POS (out), G5 AUX_OUT_POS (out), G6 D_VSS (power), G7 MCLK (in)

## LM49370RLX/NOPB
designator U?
Boomer Audio Power Amplifier Series Audio Sub-System with an Ultra Low EMI, Spread Spectrum, Class D Loudspeaker Amplifier, a Dual-Mode Stereo Headphone Amplifier, and a Dedicated Interface for Bluetooth Transceivers, 49-pin Micro SMDXT, Pb-Free; PartNumber: LM49370RLX/NOPB; Manufacturer: National Semiconductor; PackageTopMarking: XYTT*I GI3; PowerWise: Y; CompType: Audio IC; Published: 1-Mar-2010; DatasheetVersion: Feb-2008; PackageVersion: revB, Dec-2005; PackageReference: RLA49UUA; Publisher: Altium Limited; PackageDescription: Micro SMDxt, 49 Bump (Large), 0.5mm Pitch; Supplier 1: Digi-Key; Supplier Part Number 1: LM49370RLX-ND; RoHS: Y; PinCount: 49; ComponentLink1Description: LM49370 Datasheet; ComponentLink1URL: http://www.national.com/ds/LM/LM49370.pdf; ComponentLink2Description: LM49370 Web Page; ComponentLink2URL: http://www.national.com/pf/LM/LM49370.html; ComponentLink3Description: RLA49UUA Package Page; ComponentLink3URL: http://www.national.com/packaging/folders/rla49uua.html
footprint RLA49UUA (Micro SMD, 49-Leads, Body 3.93x3.93mm, Pitch 0.5mm, NSC Recommended)
pins: A1 EP_NEG (out), A2 A_VDD (power), A3 INT_MIC_POS (in), A4 PCM_SDO (out), A5 PCM_CLK (in), A6 PCM_SYNC (io), A7 PCM_SDI (in), B1 A_VSS (power), B2 EP_POS (out), B3 INT_MIC_NEG (in), B4 BYPASS, B5 TEST_MODE/~{CS} (in), B6 PLL_FILT, B7 PLL_VDD (power), C1 HP_R (out), C2 EXT_BIAS (power), C3 INT_BIAS (power), C4 AUX_R (in), C5 GPIO_2 (io), C6 SDA (io), C7 SCL (in), D1 HP_L (out), D2 VREF_FLT, D3 EXT_MIC (in), D4 SPI_MODE (in), D5 GPIO_1 (io), D6 BB_VDD (power), D7 D_VDD (power), E1 HP_VMID (power), E2 MIC_DET (in), E3 AUX_L (in), E4 CPI_NEG (in), E5 IRQ (out), E6 I2S_SDO (out), E7 I2S_SDI (in), F1 HP_VMID_FB (in), F2 LS_VDD (power), F3 CPI_POS (in), F4 CPO_NEG (out), F5 AUX_OUT_NEG (out), F6 I2S_WS (in), F7 I2S_CLK (in), G1 LS_NEG (out), G2 LS_VSS (power), G3 LS_POS (out), G4 CPO_POS (out), G5 AUX_OUT_POS (out), G6 D_VSS (power), G7 MCLK (in)

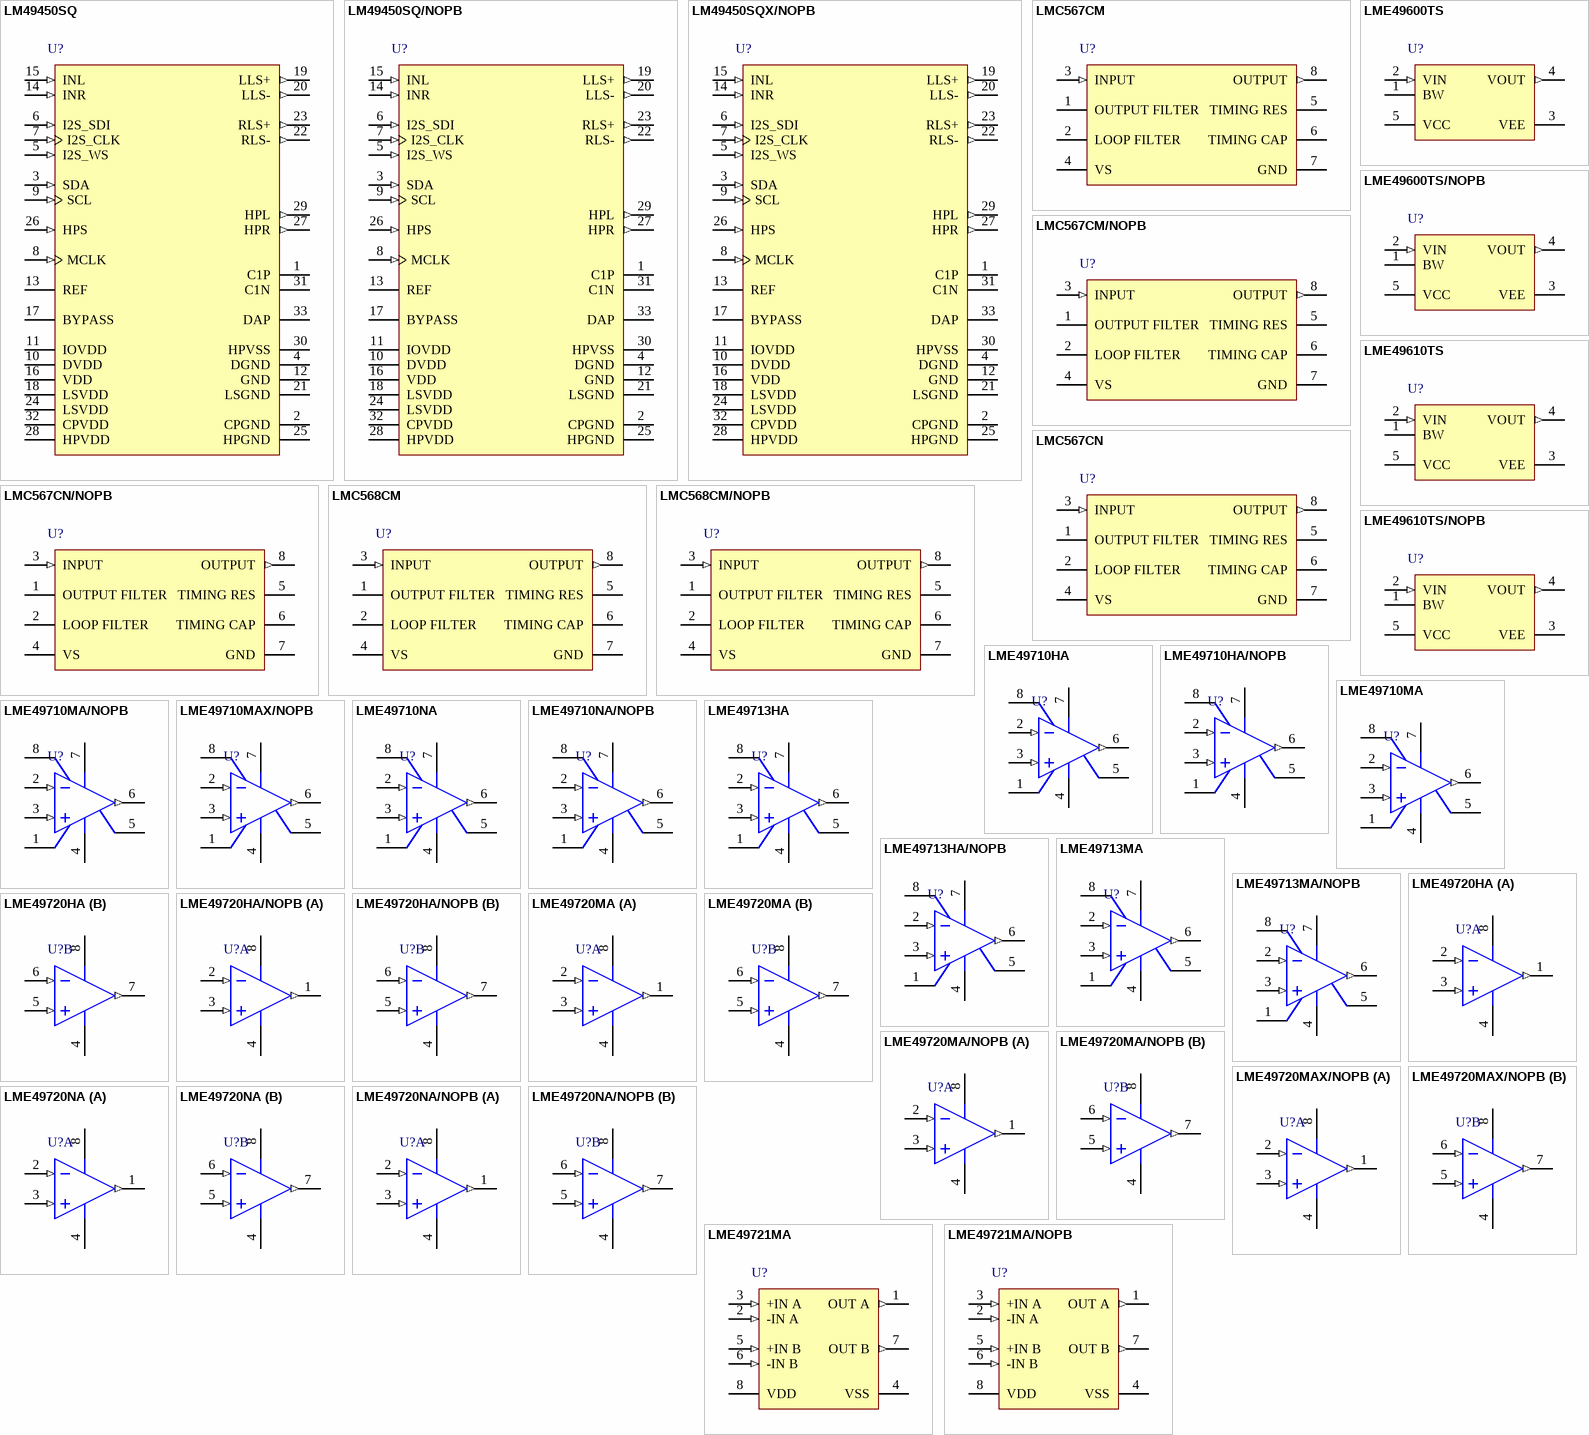
[diagram p23: symbols LM49450SQ to LME49721MA/NOPB]

## LM49450SQ
designator U?
I2S Input, 2.5W/Channel, Low EMI, Stereo, Class D Audio Sub-System with Ground Referenced Headphone Amplifier, 3D Enhancement, and Headphone Sense, 33-pin LLP; PartNumber: LM49450SQ; Manufacturer: National Semiconductor; PackageTopMarking: NS*UZXYTT*L49450; PowerWise: N; CompType: Audio IC; Published: 4-Dec-2008; DatasheetVersion: Sep-2008; PackageVersion: revB, Oct-2009; PackageReference: SQA32A; Publisher: Altium Limited; PackageDescription: LLP, Quad, 5 x 5 x 0.8mm, 32 Lead, 0.5mm Pitch, No Pullback 3.1 x 3.1 Exposed Pad; RoHS: Y; PinCount: 32; ComponentLink1Description: LM49450 Datasheet; ComponentLink1URL: http://www.national.com/ds/LM/LM49450.pdf; ComponentLink2Description: LM49450 Web Page; ComponentLink2URL: http://www.national.com/pf/LM/LM49450.html; ComponentLink3Description: SQA32A Package Page; ComponentLink3URL: http://www.national.com/packaging/folders/sqa32a.html
footprint SQA32A (QFN, 32-Leads, Body 5x5mm, Pitch 0.5mm, NSC Recommended)
pins: 1 C1P, 2 CPGND (power), 3 SDA (in), 4 DGND (power), 5 I2S_WS (in), 6 I2S_SDI (in), 7 I2S_CLK (in), 8 MCLK (in), 9 SCL (in), 10 DVDD (power), 11 IOVDD (power), 12 GND (power), 13 REF, 14 INR (in), 15 INL (in), 16 VDD (power), 17 BYPASS, 18 LSVDD (power), 19 LLS+ (out), 20 LLS- (out), 21 LSGND (power), 22 RLS- (out), 23 RLS+ (out), 24 LSVDD (power), 25 HPGND (power), 26 HPS (in), 27 HPR (out), 28 HPVDD (power), 29 HPL (out), 30 HPVSS (power), 31 C1N, 32 CPVDD (power), 33 DAP (power)

## LM49450SQ/NOPB
designator U?
I2S Input, 2.5W/Channel, Low EMI, Stereo, Class D Audio Sub-System with Ground Referenced Headphone Amplifier, 3D Enhancement, and Headphone Sense, 32-pin LLP, Pb-Free; PartNumber: LM49450SQ/NOPB; Manufacturer: National Semiconductor; PackageTopMarking: NS*UZXYTT*L49450; PowerWise: N; CompType: Audio IC; Published: 1-Mar-2010; DatasheetVersion: Sep-2008; PackageVersion: revB, Oct-2009; PackageReference: SQA32A; Publisher: Altium Limited; PackageDescription: LLP, Quad, 5 x 5 x 0.8mm, 32 Lead, 0.5mm Pitch, No Pullback 3.1 x 3.1 Exposed Pad; Supplier 1: Digi-Key; Supplier Part Number 1: LM49450SQTR-ND; Supplier 2: Digi-Key; Supplier Part Number 2: LM49450SQCT-ND; Supplier 3: Digi-Key; Supplier Part Number 3: LM49450SQDKR-ND; Supplier 4: Farnell; Supplier Part Number 4: 1685401; RoHS: Y; PinCount: 32; ComponentLink1Description: LM49450 Datasheet; ComponentLink1URL: http://www.national.com/ds/LM/LM49450.pdf; ComponentLink2Description: LM49450 Web Page; ComponentLink2URL: http://www.national.com/pf/LM/LM49450.html; ComponentLink3Description: SQA32A Package Page; ComponentLink3URL: http://www.national.com/packaging/folders/sqa32a.html
footprint SQA32A (QFN, 32-Leads, Body 5x5mm, Pitch 0.5mm, NSC Recommended)
pins: 1 C1P, 2 CPGND (power), 3 SDA (in), 4 DGND (power), 5 I2S_WS (in), 6 I2S_SDI (in), 7 I2S_CLK (in), 8 MCLK (in), 9 SCL (in), 10 DVDD (power), 11 IOVDD (power), 12 GND (power), 13 REF, 14 INR (in), 15 INL (in), 16 VDD (power), 17 BYPASS, 18 LSVDD (power), 19 LLS+ (out), 20 LLS- (out), 21 LSGND (power), 22 RLS- (out), 23 RLS+ (out), 24 LSVDD (power), 25 HPGND (power), 26 HPS (in), 27 HPR (out), 28 HPVDD (power), 29 HPL (out), 30 HPVSS (power), 31 C1N, 32 CPVDD (power), 33 DAP (power)

## LM49450SQX/NOPB
designator U?
I2S Input, 2.5W/Channel, Low EMI, Stereo, Class D Audio Sub-System with Ground Referenced Headphone Amplifier, 3D Enhancement, and Headphone Sense, 32-pin LLP, Pb-Free; PartNumber: LM49450SQX/NOPB; Manufacturer: National Semiconductor; PackageTopMarking: NS*UZXYTT*L49450; PowerWise: N; CompType: Audio IC; Published: 1-Mar-2010; DatasheetVersion: Sep-2008; PackageVersion: revB, Oct-2009; PackageReference: SQA32A; Publisher: Altium Limited; PackageDescription: LLP, Quad, 5 x 5 x 0.8mm, 32 Lead, 0.5mm Pitch, No Pullback 3.1 x 3.1 Exposed Pad; Supplier 1: Digi-Key; Supplier Part Number 1: LM49450SQX-ND; RoHS: Y; PinCount: 32; ComponentLink1Description: LM49450 Datasheet; ComponentLink1URL: http://www.national.com/ds/LM/LM49450.pdf; ComponentLink2Description: LM49450 Web Page; ComponentLink2URL: http://www.national.com/pf/LM/LM49450.html; ComponentLink3Description: SQA32A Package Page; ComponentLink3URL: http://www.national.com/packaging/folders/sqa32a.html
footprint SQA32A (QFN, 32-Leads, Body 5x5mm, Pitch 0.5mm, NSC Recommended)
pins: 1 C1P, 2 CPGND (power), 3 SDA (in), 4 DGND (power), 5 I2S_WS (in), 6 I2S_SDI (in), 7 I2S_CLK (in), 8 MCLK (in), 9 SCL (in), 10 DVDD (power), 11 IOVDD (power), 12 GND (power), 13 REF, 14 INR (in), 15 INL (in), 16 VDD (power), 17 BYPASS, 18 LSVDD (power), 19 LLS+ (out), 20 LLS- (out), 21 LSGND (power), 22 RLS- (out), 23 RLS+ (out), 24 LSVDD (power), 25 HPGND (power), 26 HPS (in), 27 HPR (out), 28 HPVDD (power), 29 HPL (out), 30 HPVSS (power), 31 C1N, 32 CPVDD (power), 33 DAP (power)

## LMC567CM
designator U?
Low Power Tone Decoder, 8-pin Narrow SOIC; PartNumber: LMC567CM; Manufacturer: National Semiconductor; PackageTopMarking: NSZXTT*LMC*567CM; PowerWise: N; CompType: Audio IC; Published: 4-Dec-2008; DatasheetVersion: Jul-1999; PackageVersion: revM, May-2009; PackageReference: M08A; Publisher: Altium Limited; PackageDescription: SOIC Narrow, 4.9 x 3.9 x 1.45mm, 8 Lead, 1.27mm Pitch; Supplier 1: Digi-Key; Supplier Part Number 1: LMC567CM-ND; RoHS: N; PinCount: 8; Code_JEDEC: MS-012-AA; Code_IPC: SOIC127P600-8; ComponentLink1Description: LMC567 Datasheet; ComponentLink1URL: http://www.national.com/ds/LM/LMC567.pdf; ComponentLink2Description: LMC567 Web Page; ComponentLink2URL: http://www.national.com/pf/LM/LMC567.html; ComponentLink3Description: M08A Package Page; ComponentLink3URL: http://www.national.com/packaging/folders/m08a.html
footprint M08A_N (SOIC, 8-Leads, Body 4.9x3.9mm, Pitch 1.27mm, IPC Medium Density)
footprint M08A_L (SOIC, 8-Leads, Body 4.9x3.9mm, Pitch 1.27mm, IPC High Density)
footprint M08A_M (SOIC, 8-Leads, Body 4.9x3.9mm, Pitch 1.27mm, IPC Low Density)
pins: 1 OUTPUT FILTER, 2 LOOP FILTER, 3 INPUT (in), 4 VS (power), 5 TIMING RES, 6 TIMING CAP, 7 GND (power), 8 OUTPUT (out)

## LMC567CM/NOPB
designator U?
Low Power Tone Decoder, 8-pin Narrow SOIC, Pb-Free; PartNumber: LMC567CM/NOPB; Manufacturer: National Semiconductor; PackageTopMarking: NSZXTT*LMC*567CM; PowerWise: N; CompType: Audio IC; Published: 1-Mar-2010; DatasheetVersion: Jul-1999; PackageVersion: revM, May-2009; PackageReference: M08A; Publisher: Altium Limited; PackageDescription: SOIC Narrow, 4.9 x 3.9 x 1.45mm, 8 Lead, 1.27mm Pitch; Supplier 1: Digi-Key; Supplier Part Number 1: LMC567CM/NOPB-ND; Supplier 2: Farnell; Supplier Part Number 2: 1564712; RoHS: Y; PinCount: 8; Code_JEDEC: MS-012-AA; Code_IPC: SOIC127P600-8; ComponentLink1Description: LMC567 Datasheet; ComponentLink1URL: http://www.national.com/ds/LM/LMC567.pdf; ComponentLink2Description: LMC567 Web Page; ComponentLink2URL: http://www.national.com/pf/LM/LMC567.html; ComponentLink3Description: M08A Package Page; ComponentLink3URL: http://www.national.com/packaging/folders/m08a.html
footprint M08A_N (SOIC, 8-Leads, Body 4.9x3.9mm, Pitch 1.27mm, IPC Medium Density)
footprint M08A_L (SOIC, 8-Leads, Body 4.9x3.9mm, Pitch 1.27mm, IPC High Density)
footprint M08A_M (SOIC, 8-Leads, Body 4.9x3.9mm, Pitch 1.27mm, IPC Low Density)
pins: 1 OUTPUT FILTER, 2 LOOP FILTER, 3 INPUT (in), 4 VS (power), 5 TIMING RES, 6 TIMING CAP, 7 GND (power), 8 OUTPUT (out)

## LMC567CN
designator U?
Low Power Tone Decoder, 8-pin MDIP; PartNumber: LMC567CN; Manufacturer: National Semiconductor; PackageTopMarking: NSUZXYTTE#*LMC*567CN; PowerWise: N; CompType: Audio IC; Published: 4-Dec-2008; DatasheetVersion: Jul-1999; PackageVersion: revG, May-2006; PackageReference: N08E; Publisher: Altium Limited; PackageDescription: MDIP, .365 x .250 x .130in, 8 Lead, .100in Pitch; Supplier 1: Farnell; Supplier Part Number 1: 9488375; RoHS: N; PinCount: 8; Code_JEDEC: MS-001-BA; ComponentLink1Description: LMC567 Datasheet; ComponentLink1URL: http://www.national.com/ds/LM/LMC567.pdf; ComponentLink2Description: LMC567 Web Page; ComponentLink2URL: http://www.national.com/pf/LM/LMC567.html; ComponentLink3Description: N08E Package Page; ComponentLink3URL: http://www.national.com/packaging/folders/n08e.html
footprint N08E (DIP, 8-Leads, Row Spacing 7.62mm, Pitch 2.54mm, Body 9.91x6.35mm)
pins: 1 OUTPUT FILTER, 2 LOOP FILTER, 3 INPUT (in), 4 VS (power), 5 TIMING RES, 6 TIMING CAP, 7 GND (power), 8 OUTPUT (out)

## LMC567CN/NOPB
designator U?
Low Power Tone Decoder, 8-pin MDIP, Pb-Free; PartNumber: LMC567CN/NOPB; Manufacturer: National Semiconductor; PackageTopMarking: NSUZXYTTE#*LMC*567CN; PowerWise: N; CompType: Audio IC; Published: 1-Mar-2010; DatasheetVersion: Jul-1999; PackageVersion: revG, May-2006; PackageReference: N08E; Publisher: Altium Limited; PackageDescription: MDIP, .365 x .250 x .130in, 8 Lead, .100in Pitch; Supplier 1: Digi-Key; Supplier Part Number 1: LMC567CN-ND; Supplier 2: Farnell; Supplier Part Number 2: 1559315; RoHS: Y; PinCount: 8; Code_JEDEC: MS-001-BA; ComponentLink1Description: LMC567 Datasheet; ComponentLink1URL: http://www.national.com/ds/LM/LMC567.pdf; ComponentLink2Description: LMC567 Web Page; ComponentLink2URL: http://www.national.com/pf/LM/LMC567.html; ComponentLink3Description: N08E Package Page; ComponentLink3URL: http://www.national.com/packaging/folders/n08e.html
footprint N08E (DIP, 8-Leads, Row Spacing 7.62mm, Pitch 2.54mm, Body 9.91x6.35mm)
pins: 1 OUTPUT FILTER, 2 LOOP FILTER, 3 INPUT (in), 4 VS (power), 5 TIMING RES, 6 TIMING CAP, 7 GND (power), 8 OUTPUT (out)

## LMC568CM
designator U?
Low Power Phase-Locked Loop, 8-pin Narrow SOIC; PartNumber: LMC568CM; Manufacturer: National Semiconductor; PackageTopMarking: NSZXTT*LMC*568CM; PowerWise: N; CompType: Audio IC; Published: 4-Dec-2008; DatasheetVersion: May-1999; PackageVersion: revM, May-2009; PackageReference: M08A; Publisher: Altium Limited; PackageDescription: SOIC Narrow, 4.9 x 3.9 x 1.45mm, 8 Lead, 1.27mm Pitch; RoHS: N; PinCount: 8; Code_JEDEC: MS-012-AA; Code_IPC: SOIC127P600-8; ComponentLink1Description: LMC568 Datasheet; ComponentLink1URL: http://www.national.com/ds/LM/LMC568.pdf; ComponentLink2Description: LMC568 Web Page; ComponentLink2URL: http://www.national.com/pf/LM/LMC568.html; ComponentLink3Description: M08A Package Page; ComponentLink3URL: http://www.national.com/packaging/folders/m08a.html
footprint M08A_N (SOIC, 8-Leads, Body 4.9x3.9mm, Pitch 1.27mm, IPC Medium Density)
footprint M08A_L (SOIC, 8-Leads, Body 4.9x3.9mm, Pitch 1.27mm, IPC High Density)
footprint M08A_M (SOIC, 8-Leads, Body 4.9x3.9mm, Pitch 1.27mm, IPC Low Density)
pins: 1 OUTPUT FILTER, 2 LOOP FILTER, 3 INPUT (in), 4 VS (power), 5 TIMING RES, 6 TIMING CAP, 7 GND (power), 8 OUTPUT (out)

## LMC568CM/NOPB
designator U?
Low Power Phase-Locked Loop, 8-pin Narrow SOIC, Pb-Free; PartNumber: LMC568CM/NOPB; Manufacturer: National Semiconductor; PackageTopMarking: NSZXTT*LMC*568CM; PowerWise: N; CompType: Audio IC; Published: 1-Mar-2010; DatasheetVersion: May-1999; PackageVersion: revM, May-2009; PackageReference: M08A; Publisher: Altium Limited; PackageDescription: SOIC Narrow, 4.9 x 3.9 x 1.45mm, 8 Lead, 1.27mm Pitch; Supplier 1: Digi-Key; Supplier Part Number 1: LMC568CM-ND; RoHS: Y; PinCount: 8; Code_JEDEC: MS-012-AA; Code_IPC: SOIC127P600-8; ComponentLink1Description: LMC568 Datasheet; ComponentLink1URL: http://www.national.com/ds/LM/LMC568.pdf; ComponentLink2Description: LMC568 Web Page; ComponentLink2URL: http://www.national.com/pf/LM/LMC568.html; ComponentLink3Description: M08A Package Page; ComponentLink3URL: http://www.national.com/packaging/folders/m08a.html
footprint M08A_N (SOIC, 8-Leads, Body 4.9x3.9mm, Pitch 1.27mm, IPC Medium Density)
footprint M08A_L (SOIC, 8-Leads, Body 4.9x3.9mm, Pitch 1.27mm, IPC High Density)
footprint M08A_M (SOIC, 8-Leads, Body 4.9x3.9mm, Pitch 1.27mm, IPC Low Density)
pins: 1 OUTPUT FILTER, 2 LOOP FILTER, 3 INPUT (in), 4 VS (power), 5 TIMING RES, 6 TIMING CAP, 7 GND (power), 8 OUTPUT (out)